# Altium footprint library HDRV10W64P0X254_1X10_2540X254X834P.PcbLib: 1 footprints
Each footprint in its own frame and in the unit in brackets; x right, y up, seen from the top. Pads: shape width x height; smd on the part's side, far side on the other; paste and mask are expansions set on the pad; w line width, h text height; cw(c..) or ccw(c..) is an arc to the next point about the centre after c.
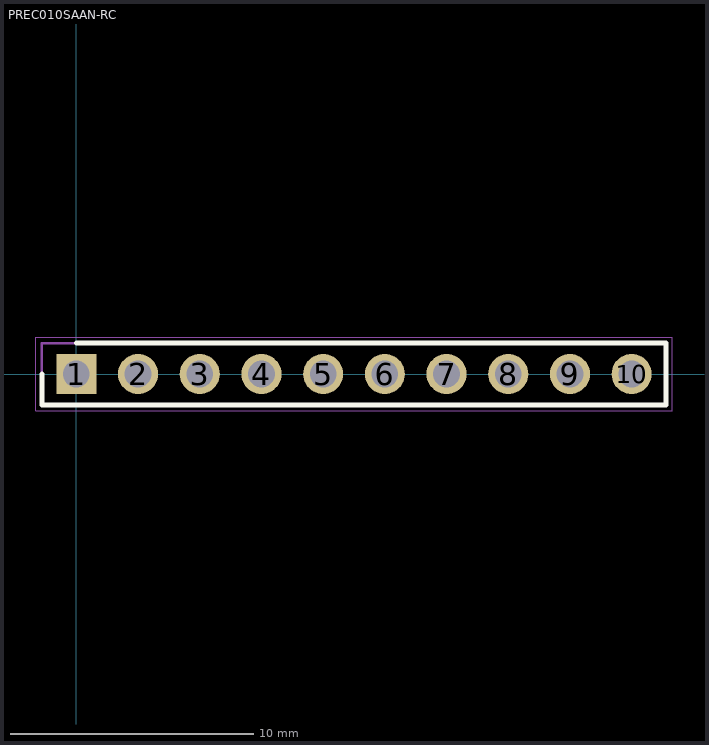
[diagram p0: the footprint, top view; thin cyan lines are the x and y axes]

## PREC010SAAN-RC [mm]
pads (10):
  rect 1.65x1.65 / inner round 1.65 / far side rect 1.65x1.65 hole 1.1: 1(0,0)
  round 1.65 hole 1.1: 2(2.54,0) 3(5.08,0) 4(7.62,0) 5(10.16,0) 6(12.7,0) 7(15.24,0) 8(17.78,0) 9(20.32,0) 10(22.86,0)
Top Overlay:
  lines w0.2: -1.42,0 -1.42,-1.27 24.28,-1.27 24.28,1.27 0,1.27
Mechanical 15:
  lines w0.1: -1.42,-1.27 24.28,-1.27 24.28,1.27 -1.42,1.27 -1.42,-1.27
Mechanical 20:
  lines w0.05: -1.67,-1.52 24.53,-1.52 24.53,1.52 -1.67,1.52 -1.67,-1.52